# EAGLE library part LM75_IC (library lm75)
LM75BD Digital temperature sensor and thermal watchdog NXP
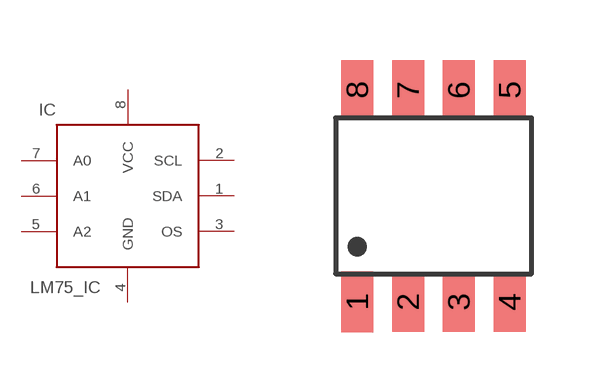
[diagram p0: symbol with the pads of SO8_LM75; footprint SO8_LM75]

Designator prefix IC

## LM75_ICN  [SO8_LM75]
1  SDA
2  SCL
3  OS  out
4  GND  pwr
5  A2  in
6  A1  in
7  A0  in
8  VCC  pwr

## Footprint SO8_LM75 (pad centres in mm)
smd 0.802 x 1.505: 1 -1.905,-2.65; 2 -0.635,-2.65; 3 0.635,-2.65; 4 1.905,-2.65; 5 1.905,2.65; 6 0.635,2.65; 7 -0.635,2.65; 8 -1.905,2.65